# EAGLE library part 62100621921 (library Headers)
SMT Vertical Pin Header WR-PHD, Pitch 2.00 mm, Dual Row, 6 pins Manufacturer's datasheet <https://datasheet.octopart.com/62100621921-W%C3%BCrth-Elektronik-datasheet-117282047.pdf>
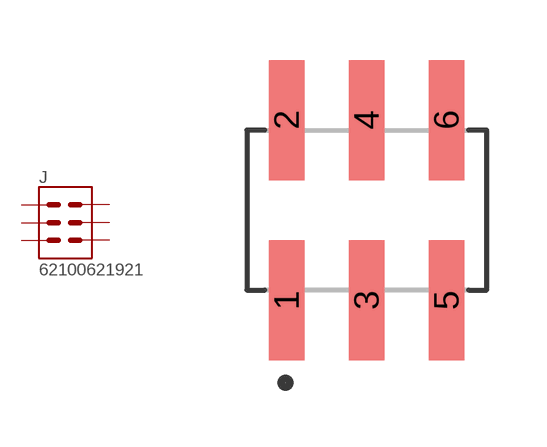
[diagram p5: symbol with the pads of 62100621921; footprint 62100621921]

Designator prefix J

## 62100621921 (CREATED_BY: PCBLayout.com; MANUFACTURER: Würth Elektronik; MPN: 62100621921)  [62100621921]
1  1  pas
2  2  pas
3  3  pas
4  4  pas
5  5  pas
6  6  pas

## Footprint 62100621921 (pad centres in mm)
smd 0.89 x 3: 1 -2,-2.25; 2 -2,2.25; 3 0,-2.25; 4 0,2.25; 5 2,-2.25; 6 2,2.25